# Altium integrated library EXB-38V103JV.IntLib: 1 symbol
Pins are listed as number, name and electrical type; pins without a type are passive.

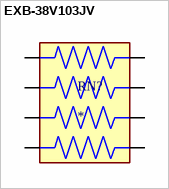
[diagram p0: symbol EXB-38V103JV]

## EXB-38V103JV
designator RN?
10k Ohm Â±5% 62.5mW Power Per Element Isolated Resistor Network/Array Â±200ppm/Â°C 1206 (3216 Metric), Convex, Long Side Terminals; MF: Panasonic; MP: EXB-38V103JV; Digi-Key_Part_Number: Y9103CT-ND; Check_prices: https://www.snapeda.com/parts/EXB-38V103JV/Panasonic%20Electronic%20Components/view-part/48689/?ref=eda; SnapEDA_Link: https://www.snapeda.com/parts/EXB-38V103JV/Panasonic%20Electronic%20Components/view-part/48689/?ref=snap; Package: 1206 Panasonic; Purchase-URL: https://pricing.snapeda.com/search/part/EXB-38V103JV/?ref=eda; Value: *
footprint RESCAXS80P320X160X60-8N
pins: 1, 2, 3, 4, 5, 6, 7, 8